# Altium footprint library GOSTTransistor.PcbLib: 21 footprints (part 2 of 2)
Each footprint in its own frame and in the unit in brackets; x right, y up, seen from the top. Pads: shape width x height; smd on the part's side, far side on the other; paste and mask are expansions set on the pad; w line width, h text height; cw(c..) or ccw(c..) is an arc to the next point about the centre after c.
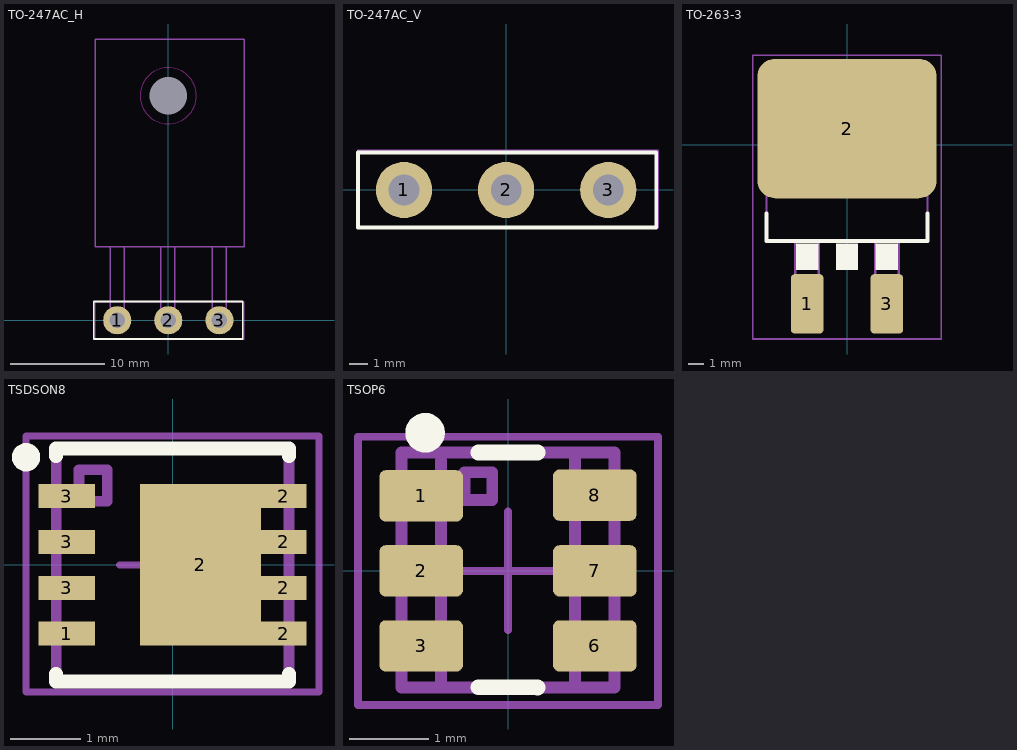
[diagram p1: the footprints below, top view; thin cyan lines are the x and y axes]

## TO-247AC_H [mm]
pads (4):
  round 3 hole 1.64: 1(-5.45,0) 2(0,0) 3(5.45,0)
  round 0 hole 4 unplated: ""(0,23.951)
Top Overlay:
  lines w0.2: -7.95,-2 7.95,-2 7.95,2 -7.95,2 -7.95,-2
Keep-Out Layer:
  circle w0.1: c0,23.951 r3
Mechanical 7:
  lines w0.15: -6.2,7.841 -6.2,0 -4.7,0 -4.7,7.841 ; -0.8,7.841 -0.8,0 0.7,0 0.7,7.841 ; 4.7,7.841 4.7,0 6.2,0 6.2,7.841 ; -7.8,7.841 -7.8,19.844 -7.8,30.009 8.1,30.009 8.1,7.841 -7.8,7.841
  text "1" at -5.7,8.6 h4
Mechanical 9:
  text ".Designator" at -6.25,-4.5 h3
Mechanical 10:
  text ".Comment" at -4,-6.75 h2
Mechanical 15:
  lines w0.1: -0.75,0 0.75,0 ; 0,-0.75 0,0.75 ; -7.8,-2 -7.8,2 8.1,2 8.1,-2 -7.8,-2
3D body "TO-247.STEP": height 4.17, standoff -10.05, extent -7.834,-0.6 8.066,30.009

## TO-247AC_V [mm]
pads (3):
  round 3 hole 1.64: 1(-5.45,0) 2(0,0) 3(5.45,0)
Top Overlay:
  lines w0.2: -7.9,-2 8,-2 8,2 -7.9,2 -7.9,-2
Mechanical 9:
  text ".Designator" at -6.2,-5.5 h3
Mechanical 10:
  text ".Comment" at -4,-7.4 h2
Mechanical 15:
  lines w0.1: -0.75,0 0.75,0 ; 0,-0.75 0,0.75 ; -7.9,-2 -7.9,2.1 8.1,2.1 8.1,-2 -7.9,-2
3D body "User Library-PG-TO247-3-21.step": height 25.95, standoff -15.18, extent -7.925,-2.8 7.975,2.3

## TO-263-3 [mm]
pads (3):
  rrect25% 2.08x3.81 smd: 1(-2.54,-10.16) 3(2.54,-10.16)
  rrect25% 11.43x8.89 smd: 2(0,1.02)
Top Overlay:
  rectangle: -3.251,-8 -1.829,-6.312
  rectangle: 1.829,-8 3.251,-6.312
  rectangle: -0.711,-8 0.711,-6.312
  lines w0.254: -5.131,-4.381 -5.131,-6.159 5.131,-6.159 5.131,-4.381
Mechanical 7:
  lines w0.15: -5.131,-6.159 -5.131,3.175 ; -5.1,-6.159 5.1,-6.159 ; -3.3,-6.159 -3.3,-11.2 -1.8,-11.2 -1.8,-6.159 ; 1.8,-6.159 1.8,-11.2 3.3,-11.2 3.3,-6.159 ; 5.131,-6.159 5.131,3.175 ; -5.131,3.175 5.131,3.175 ; -5.131,3.175 -5.131,3.429 -3.378,4.547 3.124,4.547 5.131,3.175
Mechanical 9:
  text ".Designator" at -5,6.5 h3
Mechanical 10:
  text ".Comment" at -3.099,-14.1 h2
Mechanical 15:
  lines w0.1: -0.75,0 0.75,0 ; 0,-0.75 0,0.75 ; -6,-12.4 6,-12.4 6,5.7 -6,5.7 -6,-12.4
3D body "User Library-D?PAK TO-263-3.step": height 4.87, standoff 0, extent -5.16,-10.474 5,3.756

## TSDSON8 [mm]
height 1.11
pads (9):
  rect 0.8x0.34 smd: 1(-1.5,-0.975) 3(-1.5,-0.325) 3(-1.5,0.325) 3(-1.5,0.975)
  rect 1.71x2.29 smd: 2(0.395,0)
  rect 0.65x0.34 smd: 2(1.575,-0.975) 2(1.575,-0.325) 2(1.575,0.325) 2(1.575,0.975)
Top Overlay:
  circle w0.2: c-2.075,1.525 r0.1
  lines w0.2: -1.65,-1.545 -1.65,-1.65 1.65,-1.65 1.65,-1.545 ; -1.65,1.545 -1.65,1.65 1.65,1.65 1.65,1.545
Top Paste:
  region: -0.304,-0.989 -0.304,-0.106 0.311,-0.106 0.311,-0.989
  region: 0.508,0.113 0.508,0.952 1.063,0.952 1.063,0.113
  region: 1.092,-0.127 1.092,-0.968 0.477,-0.968 0.477,-0.127
  region: -0.276,0.089 -0.276,0.976 0.279,0.976 0.279,0.089
Mechanical 7:
  lines w0.15: -1.65,-1.65 -1.65,1.65 1.65,1.65 1.65,-1.65 -1.65,-1.65 ; -1.325,0.9 -1.325,1.35 -0.925,1.35 -0.925,0.9 -1.325,0.9
Mechanical 9:
  text ".Designator" at -5.1,3.3 h3
Mechanical 10:
  text ".Comment" at -2.7,-4.7 h2
Mechanical 15:
  lines w0.1: -0.75,0 0.75,0 ; 0,-0.75 0,0.75 ; -2.075,-1.8 2.075,-1.8 2.075,1.825 -2.075,1.825 -2.075,-1.8
3D body "User Library-PG-TSDSON-8-1.STEP": height 1.11, standoff 0, extent -1.7,-1.7 1.7,1.7

## TSOP6 [mm]
height 1.75
pads (6):
  rrect25% 1.06x0.65 smd: 1(-1.1,0.95) 2(-1.1,0) 3(-1.1,-0.95) 6(1.1,-0.95) 7(1.1,0) 8(1.1,0.96)
Top Overlay:
  circle w0.25: c-1.05,1.75 r0.125
  lines w0.2: -0.375,-1.475 0.375,-1.475 ; -0.375,1.5 0.375,1.5
Mechanical 7:
  lines w0.15: -0.85,-1.475 -0.85,1.4 ; 0.85,-1.475 0.85,1.475 ; -1.35,-1.475 -1.35,1.5 1.35,1.5 1.35,-1.475 -1.35,-1.475 ; -0.55,0.9 -0.2,0.9 -0.2,1.25 -0.55,1.25 -0.55,0.9
Mechanical 9:
  text ".Designator" at -5.375,2.6 h3
Mechanical 10:
  text ".Comment" at -2.625,-3.225 h2
Mechanical 15:
  lines w0.1: -0.75,0 0.75,0 ; 0,-0.75 0,0.75 ; -1.9,-1.7 1.9,-1.7 1.9,1.7 -1.9,1.7 -1.9,-1.7
3D body "User Library-TSOP-6.step": height 1, standoff 0, extent -1.35,-1.5 1.35,1.5